# EAGLE library part LM3.5/6/90 (library con-weidmueller-350)
LM3.5/6/90
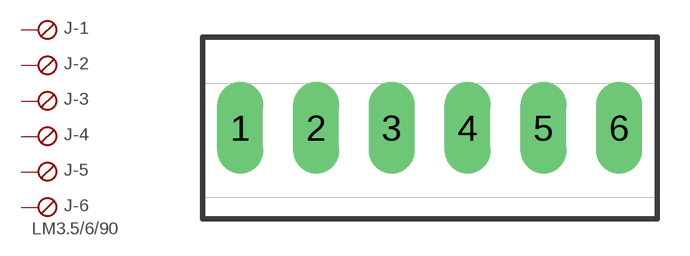
[diagram p1: symbol with the pads of LM-06; footprint LM-06]

Designator prefix J; gates -1=SKB -2=SKB -3=SKB -4=SKB -5=SKB -6=SKBU+V

## LM3.5/6/90  [LM-06]
1  -1:S  pas
2  -2:S  pas
3  -3:S  pas
4  -4:S  pas
5  -5:S  pas
6  -6:S  pas

## Footprint LM-06 (pad centres in mm)
LM 3.5/6/90
drill 1.422 long: 1 -8.75,0; 2 -5.25,0; 3 -1.75,0; 4 1.75,0; 5 5.25,0; 6 8.75,0